# Altium schematic symbol library SCH - CONNECTORS - WE 7499110123.Schlib: 1 symbol
Pins are listed as number, name and electrical type; pins without a type are passive.

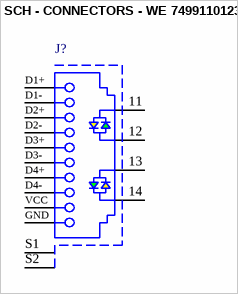
[diagram p0: symbol SCH - CONNECTORS - WE 7499110123]

## SCH - CONNECTORS - WE 7499110123
designator J?
footprint 7499110123
pins: 1 VCC, 2 D4-, 3 D4+, 4 D3-, 5 D3+, 6 D2-, 7 D2+, 8 D1-, 9 D1+, 10 GND, 11, 12, 13, 14, S1 Shield, S2 Shield